# Altium footprint library SparkFun-Connectors.PCBLIB: 305 footprints (part 20 of 20)
Each footprint in its own frame and in the unit in brackets; x right, y up, seen from the top. Pads: shape width x height; smd on the part's side, far side on the other; paste and mask are expansions set on the pad; w line width, h text height; cw(c..) or ccw(c..) is an arc to the next point about the centre after c.
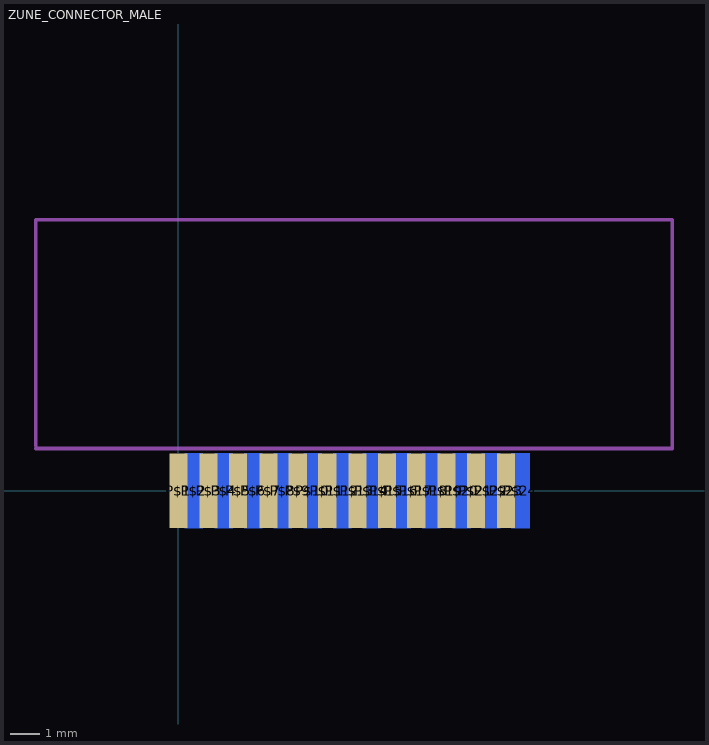
[diagram p19: the footprint, top view; thin cyan lines are the x and y axes]

## ZUNE_CONNECTOR_MALE [mil]
pads (24):
  rect 24x99 smd: P$1(0,0) P$3(40,0) P$5(79,0) P$7(119,0) P$9(158,0) P$11(197,0) P$13(237,0) P$15(276,0) P$17(315,0) P$19(355,0) P$21(394,0) P$23(434,0)
  rect 24x99 smd far side: P$2(20,0) P$4(60,0) P$6(99,0) P$8(138,0) P$10(178,0) P$12(217,0) P$14(256,0) P$16(296,0) P$18(335,0) P$20(375,0) P$22(414,0) P$24(453,0)
Mechanical 16:
  lines w5: -188.98,56 654,56 654,359 -188.98,359 -188.98,60
  text "Connector should be used only with 1.2mm PCB thickness." at -35.43,71 h18.6